# Altium footprint library MiscArt.PcbLib: 10 footprints
Each footprint in its own frame and in the unit in brackets; x right, y up, seen from the top. Pads: shape width x height; smd on the part's side, far side on the other; paste and mask are expansions set on the pad; w line width, h text height; cw(c..) or ccw(c..) is an arc to the next point about the centre after c.
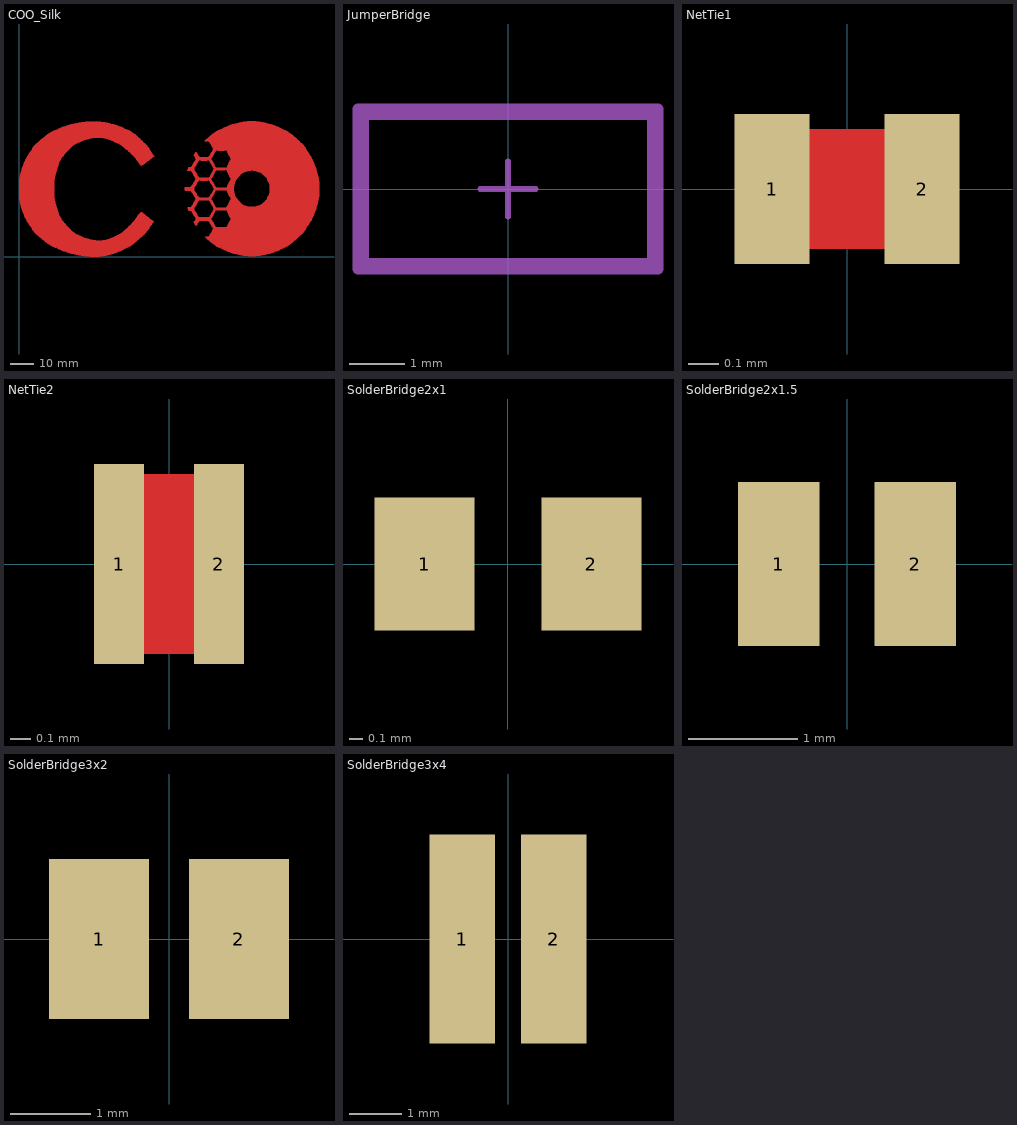
[diagram p0: the footprints below, top view; thin cyan lines are the x and y axes]

## 0380021226 [mm]
3D body "0380021226.step": height 7.54, standoff 0, extent -7.94,-3.18 7.94,3.18

## COO_Silk [mm]
Top Layer:
  drawing of 2 lines, arcs and shapes, not listed

## JumperBridge [mm] "Removable Jumper Bridge"
Top Assembly:
  lines w0.2: -2.691,-1.433 2.691,-1.433 2.691,1.433 -2.691,1.433 -2.691,-1.433
Top Component Center:
  lines w0.1: -0.5,0 0.5,0 ; 0,-0.5 0,0.5
Top 3D Body:
  lines w0.2: -2.591,-1.333 2.591,-1.333 2.591,1.333 -2.591,1.333 -2.591,-1.333
Top Courtyard:
  lines w0.2: -2.691,-1.433 2.691,-1.433 2.691,1.433 -2.691,1.433 -2.691,-1.433
3D body "Conn_Sullins_QPC02SXGN-RC_eec.STEP": height 8.71, standoff 2.54, extent -2.49,-1.228 2.491,1.227

## NetTie1 [mm] "0.5mm pads. 0.4mm tie, 1mm total length"
pads (2):
  rect 0.25x0.5 smd paste-1 mask+0.102: 1(-0.25,0) 2(0.25,0)
Top Layer:
  rectangle: -0.2,-0.2 0.2,0.2

## NetTie2 [mm] "1mm pads. 0.9mm tie, 1mm total length"
pads (2):
  rect 0.25x1 smd paste-1 mask+0.102: 1(-0.25,0) 2(0.25,0)
Top Layer:
  rectangle: -0.2,-0.45 0.2,0.45

## PCBComponent_1 [mm]

## SolderBridge2x1 [mm]
pads (2):
  rect 0.75x1 smd paste-1 mask+0.102: 1(-0.625,0) 2(0.625,0)
Top Solder:
  rectangle: -1.125,-0.625 1.125,0.625

## SolderBridge2x1.5 [mm]
pads (2):
  rect 0.75x1.5 smd paste-1 mask+0.102: 1(-0.625,0) 2(0.625,0)
Top Solder:
  rectangle: -1.125,-0.875 1.125,0.875

## SolderBridge3x2 [mm]
pads (2):
  rect 1.25x2 smd paste-1 mask+0.102: 1(-0.875,0) 2(0.875,0)
Top Solder:
  rectangle: -1.625,-1.125 1.625,1.125

## SolderBridge3x4 [mm]
pads (2):
  rect 1.25x4 smd paste-1 mask+0.102: 1(-0.875,0) 2(0.875,0)
Top Solder:
  rectangle: -1.625,-2.125 1.625,2.125